# Altium schematic symbol library ServoInterface.SchLib: 20 symbols
Pins are listed as number, name and electrical type; pins without a type are passive.

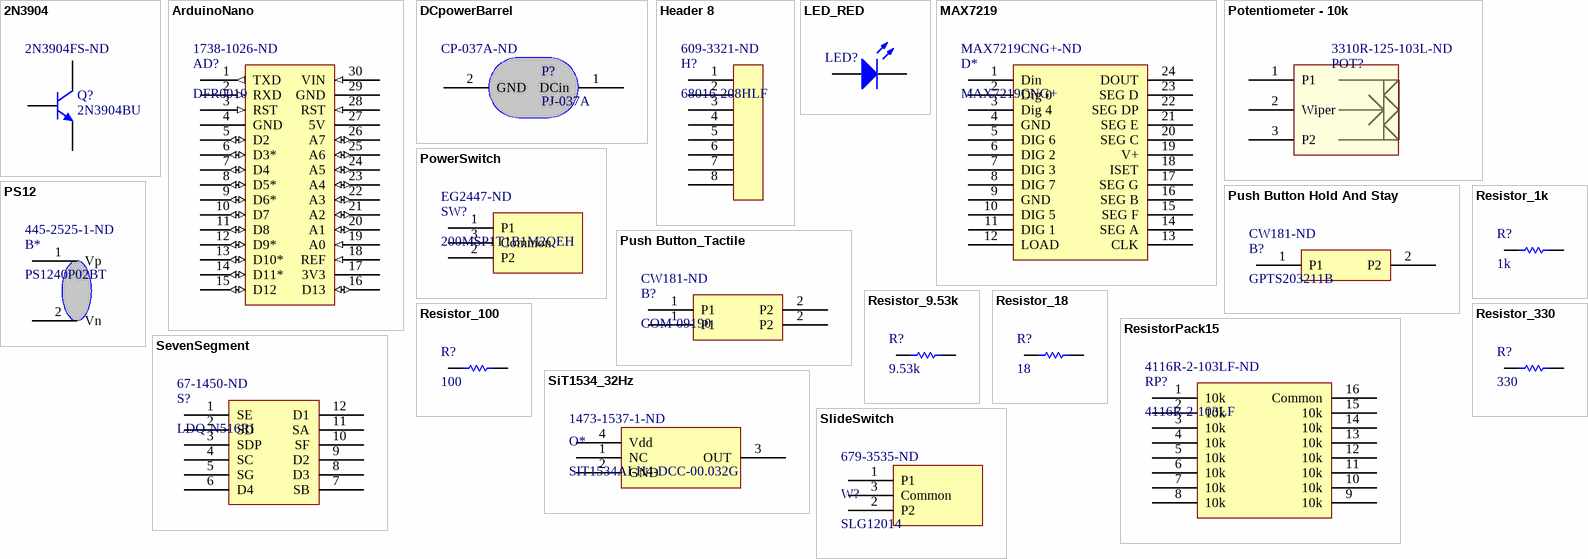
[diagram p0: symbols 2N3904 to SlideSwitch]

## 2N3904
designator Q?, comment 2N3904BU  Supplier Part Number 1: 2N3904FS-ND
TRANS NPN 40V 0.2A TO-92; Published: 8-Jun-2000; LatestRevisionDate: 15-Jan-2003; LatestRevisionNote: PCB Footprint 'BCY-W3/D4.7' replaced; DatasheetVersion: 1997; PackageVersion: Sep-1998; PackageReference: TO-92A; Publisher: Altium Limited; PackageDescription: TO, Flat Index; 3 In-Line, Axial Leads; Body Dia. 4.5mm; Leads 0.51 x 0.48 mm (max); ComponentLink1Description: Manufacturer Link; ComponentLink1URL: http://www.fairchildsemi.com/; ComponentLink2Description: Datasheet; ComponentLink2URL: http://www.fairchildsemi.com/ds/2N%2F2N3904.pdf; Supplier 1: Digi-Key; ComponentLink3Description: 2N3904FS-ND; ComponentLink3URL: https://www.digikey.com/product-detail/en/on-semiconductor/2N3904BU/2N3904FS-ND/1413
simulation model 2N3904 (NPN)
signal-integrity model 2N3904
footprint 2N3904 (TO, Flat Index; 3 In-Line, Axial Leads; Body Dia. 4.5mm; Leads 0.51 x 0.48 mm (max))
pins: 1 E, 2 B, 3 C

## ArduinoNano
designator AD?, comment DFR0010  Supplier Part Number 1: 1738-1026-ND
DFRDUINO NANO V3.1 (ARDUINO NANO; ComponentLink1Description: 1738-1026-ND; ComponentLink1URL: https://www.digikey.com/product-detail/en/dfrobot/DFR0010/1738-1026-ND/6588448; Supplier 1: Digi-Key
footprint ArduinoNano
pins: 1 TXD (out), 2 RXD (in), 3 RST (in), 4 GND, 5 D2 (io), 6 D3* (io), 7 D4 (io), 8 D5* (io), 9 D6* (io), 10 D7 (io), 11 D8 (io), 12 D9* (io), 13 D10* (io), 14 D11* (io), 15 D12 (io), 16 D13 (io), 17 3V3 (power), 18 REF (in), 19 A0 (in), 20 A1 (io), 21 A2 (io), 22 A3 (io), 23 A4 (io), 24 A5 (io), 25 A6 (io), 26 A7 (io), 27 5V (power), 28 RST (in), 29 GND, 30 VIN (in)

## DCpowerBarrel
designator P?, comment PJ-037A  Supplier Part Number 1: CP-037A-ND
CONN PWR JACK 2X5.5MM SOLDER; ComponentLink1Description: CP-037A-ND; ComponentLink1URL: https://www.digikey.com/product-detail/en/cui-inc/PJ-037A/CP-037A-ND/1644545; Supplier 1: Digi-Key
footprint PJ-037A
pins: 1 DCin, 2 GND

## Header 8
designator H?, comment 68016-208HLF  Supplier Part Number 1: 609-3321-ND
CONN HEADER 8POS .100 R/A 15AU; Supplier 1: Digi-Key; ComponentLink1Description: 609-3321-ND; ComponentLink1URL: https://www.digikey.com/product-detail/en/amphenol-fci/68016-208HLF/609-3321-ND/1878499
footprint Header1X8 (Connector; Header; 8 Position)
pins: 1, 2, 3, 4, 5, 6, 7, 8

## LED_RED
designator LED?, comment LTL-4223  (value not drawn)
2 V drop 10 mA Red; ComponentLink1Description: 160-1127-ND; ComponentLink1URL: https://www.digikey.com/product-detail/en/lite-on-inc/LTL-4223/160-1127-ND/200395; Supplier 1: Digi-Key
footprint LED Through
pins: 1 A, 2 K

## MAX7219
designator D*, comment MAX7219CNG+  Supplier Part Number 1: MAX7219CNG+-ND
Serially Interfaced, 8-Digit LED Display Driver; ComponentLink1Description: MAX7219CNG+-ND; ComponentLink1URL: https://www.digikey.com/product-detail/en/maxim-integrated/MAX7219CNG/MAX7219CNG-ND/948191; Supplier 1: Digi-Key
footprint MAX7219 (SOJ, 24-Leads, Body 32.13x8.89mm, Pitch 2.54mm, IPC Low Density)
pins: 1 Din, 2 Dig 0, 3 Dig 4, 4 GND, 5 DIG 6, 6 DIG 2, 7 DIG 3, 8 DIG 7, 9 GND, 10 DIG 5, 11 DIG 1, 12 LOAD, 13 CLK, 14 SEG A, 15 SEG F, 16 SEG B, 17 SEG G, 18 ISET, 19 V+, 20 SEG C, 21 SEG E, 22 SEG DP, 23 SEG D, 24 DOUT

## Potentiometer - 10k
designator POT?, comment Supplier Part Number 1: 3310R-125-103L-ND  (hidden comment: 3310R-125-103L)
POT 10K OHM 1/4W PLASTIC LINEAR; ComponentLink1Description: 3310R-125-103L-ND; ComponentLink1URL: https://www.digikey.com/product-detail/en/bourns-inc/3310R-125-103L/3310R-125-103L-ND/2537840; Supplier 1: Digi-Key
footprint 3310R-001
pins: 1 P1, 2 Wiper, 3 P2

## PowerSwitch
designator SW?, comment 200MSP1T1B1M2QEH  Supplier Part Number 1: EG2447-ND
SWITCH TOGGLE SPDT 3A 120V; ComponentLink1Description: EG2447-ND; ComponentLink1URL: https://www.digikey.com/product-detail/en/e-switch/200MSP1T1B1M2QEH/EG2447-ND/378916; Supplier 1: Digi-Key
footprint 200MSP1T1B1M2QEH
pins: 1 P1, 2 P2, 3 Common

## PS12
designator B*, comment PS1240P02BT  Supplier Part Number 1: 445-2525-1-ND
Piezo Buzzer, Through Hole; ComponentLink1Description: 445-2525-1-ND; ComponentLink1URL: https://www.digikey.com/product-detail/en/tdk-corporation/PS1240P02BT/445-2525-1-ND/935930; Supplier 1: Digi-Key
footprint PS1240P02BT (Buzzer)
pins: 1 Vp, 2 Vn

## Push Button Hold And Stay
designator B?, comment GPTS203211B  Supplier Part Number 1: CW181-ND
SWITCH PUSHBUTTON SPST 1A 30V / HOLD AND STAY; ComponentLink1Description: CW181-ND; ComponentLink1URL: https://www.digikey.com/product-detail/en/cw-industries/GPTS203211B/CW181-ND/3190590; Supplier 1: Digi-Key
footprint GPTS203211B
pins: 1 P1, 2 P2

## Push Button_Tactile
designator B?, comment COM-09190  Supplier Part Number 1: CW181-ND
Momentary Pushbutton Switch - 12mm Square; Supplier 1: Digi-Key; ComponentLink2Description: Momentary Pushbutton Switch - 12mm Square; ComponentLink2URL: https://www.sparkfun.com/products/9190
footprint COM-09190
pins: 1 P1, 1 P1, 2 P2, 2 P2

## Resistor_1k
designator R?, comment 1k
CF14JT1K00; Supplier 1: Digi-Key; ComponentLink1Description: CF14JT1K00TR-ND; ComponentLink1URL: https://www.digikey.com/product-detail/en/stackpole-electronics-inc/CF14JT1K00/CF14JT1K00TR-ND/1741314
footprint Resistor Through Hole
pins: 1, 2

## Resistor_9.53k
designator R?, comment 9.53k
MFR-25FBF52-9K53; ComponentLink1Description: 9.53KXBK-ND; ComponentLink1URL: https://www.digikey.com/product-detail/en/yageo/MFR-25FBF52-9K53/9.53KXBK-ND/13215; Supplier 1: Digi-Key
footprint Resistor Through Hole
pins: 1, 2

## Resistor_18
designator R?, comment 18
CF14JT18R0; Supplier 1: Digi-Key
footprint Resistor Through Hole
pins: 1, 2

## Resistor_100
designator R?, comment 100
CF14JT100R; ComponentLink1Description: CF14JT100RCT-ND; ComponentLink1URL: https://www.digikey.com/product-detail/en/stackpole-electronics-inc/CF14JT100R/CF14JT100RCT-ND/1830327; Supplier 1: Digi-Key
footprint Resistor Through Hole
pins: 1, 2

## Resistor_330
designator R?, comment 330
CF14JT330R; Supplier 1: Digi-Key
footprint Resistor Through Hole
pins: 1, 2

## ResistorPack15
designator RP?, comment 4116R-2-103LF  Supplier Part Number 1: 4116R-2-103LF-ND
Supplier 1: Digi-Key
footprint 4100R (SOJ, 16-Leads, Body 32.13x8.89mm, Pitch 2.54mm, IPC Low Density)
pins: 1 10k, 2 10k, 3 10k, 4 10k, 5 10k, 6 10k, 7 10k, 8 10k, 9 10k, 10 10k, 11 10k, 12 10k, 13 10k, 14 10k, 15 10k, 16 Common

## SevenSegment
designator S?, comment LDQ-N516RI  Supplier Part Number 1: 67-1450-ND
LED 7-SEG .56 QUAD S-RED CC MULT; ComponentLink1Description: 67-1450-ND; ComponentLink1URL: https://www.digikey.com/products/en?keywords=LDQ-N516RI; Supplier 1: Digi-Key
footprint LDQ-516RI
pins: 1 SE, 2 SD, 3 SDP, 4 SC, 5 SG, 6 D4, 7 SB, 8 D3, 9 D2, 10 SF, 11 SA, 12 D1

## SiT1534_32Hz
designator O*, comment SIT1534AI-H4-DCC-00.032G  Supplier Part Number 1: 1473-1537-1-ND
Factory Programmable Oscilator; ComponentLink1Description: 1473-1537-6-ND; ComponentLink1URL: https://www.digikey.com/product-detail/en/sitime/SIT1534AI-H4-DCC-00.032G/1473-1537-6-ND/6561097; Supplier 1: Digi-Key
footprint SiT1534_SMD (Chip Oscillator, 4-Leads, Body 2.00x1.20mm, IPC Medium Density)
pins: 1 NC, 2 GND, 3 OUT, 4 Vdd

## SlideSwitch
designator W?, comment SLG12014  Supplier Part Number 1: 679-3535-ND
SWITCH SLIDE SPDT 300MA 125V; ComponentLink1Description: 679-3535-ND; ComponentLink1URL: https://www.digikey.com/product-detail/en/apem-inc/SLG12014/679-3535-ND/1797348; Supplier 1: Digi-Key
footprint SLG12014
pins: 1 P1, 2 P2, 3 Common